# EAGLE library part MZB32F (library con-vg)
CONNECTOR male, 32 pins, single, type F, rows BZ, grid 5.08 mm
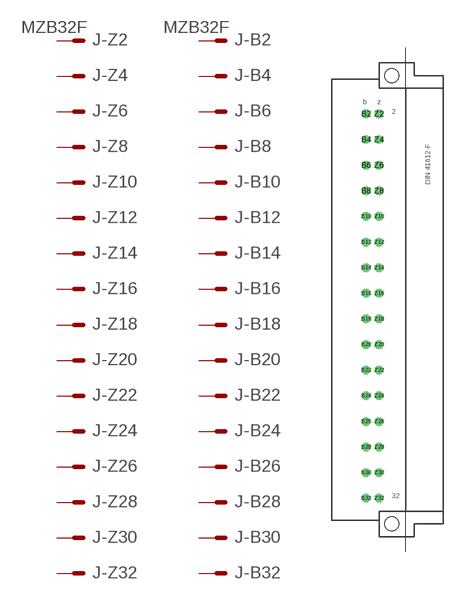
[diagram p36: symbol with the pads of MZB32F; footprint MZB32F]

Designator prefix J; gates -Z2=MVAL -Z4=MAL -Z6=MAL -Z8=MAL -Z10=MAL -Z12=MAL -Z14=MAL -Z16=MAL -Z18=MAL -Z20=MAL -Z22=MAL -Z24=MAL -Z26=MAL -Z28=MAL -Z30=MAL -Z32=MAL -B2=MVAL -B4=MAL -B6=MAL -B8=MAL -B10=MAL -B12=MAL -B14=MAL -B16=MAL -B18=MAL -B20=MAL -B22=MAL -B24=MAL -B26=MAL -B28=MAL -B30=MAL -B32=MAL

## MZB32F  [MZB32F]
B2  -B2:S  pas
B4  -B4:S  pas
B6  -B6:S  pas
B8  -B8:S  pas
B10  -B10:S  pas
B12  -B12:S  pas
B14  -B14:S  pas
B16  -B16:S  pas
B18  -B18:S  pas
B20  -B20:S  pas
B22  -B22:S  pas
B24  -B24:S  pas
B26  -B26:S  pas
B28  -B28:S  pas
B30  -B30:S  pas
B32  -B32:S  pas
Z2  -Z2:S  pas
Z4  -Z4:S  pas
Z6  -Z6:S  pas
Z8  -Z8:S  pas
Z10  -Z10:S  pas
Z12  -Z12:S  pas
Z14  -Z14:S  pas
Z16  -Z16:S  pas
Z18  -Z18:S  pas
Z20  -Z20:S  pas
Z22  -Z22:S  pas
Z24  -Z24:S  pas
Z26  -Z26:S  pas
Z28  -Z28:S  pas
Z30  -Z30:S  pas
Z32  -Z32:S  pas

## Footprint MZB32F (pad centres in mm)
CONNECTOR male, 32 pins, type F, rows BZ, grid 5.08 mm
drill 1.118 octagon: B2 -5.08,36.83; B4 -5.08,31.75; B6 -5.08,26.67; B8 -5.08,21.59; B10 -5.08,16.51; B12 -5.08,11.43; B14 -5.08,6.35; B16 -5.08,1.27; B18 -5.08,-3.81; B20 -5.08,-8.89; B22 -5.08,-13.97; B24 -5.08,-19.05; B26 -5.08,-24.13; B28 -5.08,-29.21; B30 -5.08,-34.29; B32 -5.08,-39.37; Z2 -2.54,36.83; Z4 -2.54,31.75; Z6 -2.54,26.67; Z8 -2.54,21.59; Z10 -2.54,16.51; Z12 -2.54,11.43; Z14 -2.54,6.35; Z16 -2.54,1.27; Z18 -2.54,-3.81; Z20 -2.54,-8.89; Z22 -2.54,-13.97; Z24 -2.54,-19.05; Z26 -2.54,-24.13; Z28 -2.54,-29.21; Z30 -2.54,-34.29; Z32 -2.54,-39.37
hole 2.794 at 0,44.45
hole 2.794 at 0,-44.45